# Altium schematic symbol library IRFL024ZTRPBF.SchLib: 1 symbol
Pins are listed as number, name and electrical type; pins without a type are passive.

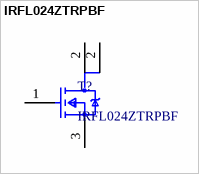
[diagram p0: symbol IRFL024ZTRPBF]

## IRFL024ZTRPBF
designator T?
footprint SOT-223-3
pins: 1 GATE, 2 DRAIN, 2 DRAIN, 3 SOURCE